# Altium footprint library SMD Resistor.PcbLib: 10 footprints
Each footprint in its own frame and in the unit in brackets; x right, y up, seen from the top. Pads: shape width x height; smd on the part's side, far side on the other; paste and mask are expansions set on the pad; w line width, h text height; cw(c..) or ccw(c..) is an arc to the next point about the centre after c.
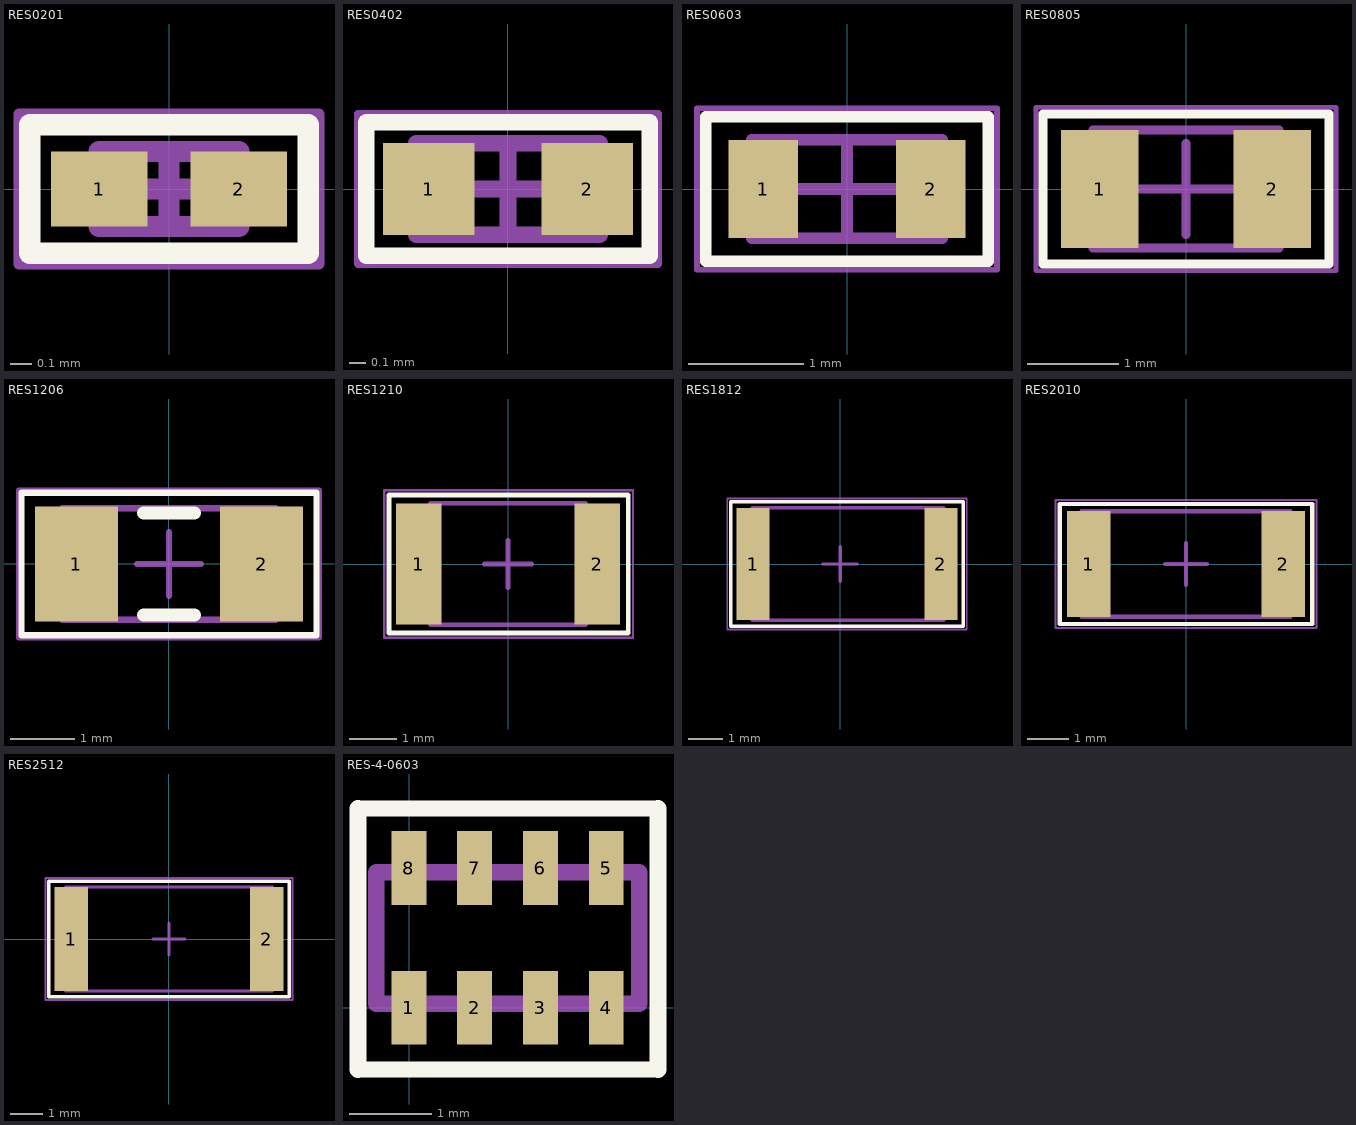
[diagram p0: the footprints below, top view; thin cyan lines are the x and y axes]

## RES0201 [mm] "Chip Resistor, 2-Leads, Body 0/60x0/30mm, IPC Medium Density DESIGNER:ABBAS BASEREH"
height 0.23
pads (2):
  rect 0.45x0.35 smd mask+0.04: 1(-0.325,0) 2(0.325,0)
Top Overlay:
  lines w0.1: -0.65,-0.3 0.325,-0.3 0.65,-0.3 0.65,0.3 0.325,0.3 -0.65,0.3 -0.65,-0.3
Mechanical 13:
  lines w0.1: -0.325,-0.175 0.325,-0.175 0.325,0.175 -0.325,0.175 -0.325,-0.175
Mechanical 15:
  lines w0.05: -0.7,-0.35 0.7,-0.35 0.7,0.35 -0.7,0.35 -0.7,-0.35
  lines w0.1: -0.175,0 0.175,0 ; 0,-0.175 0,0.175
3D body "User Library-0201(0603M) Res.STEP": height 0.32, standoff 0.01, extent -0.305,-0.152 0.305,0.153

## RES0402 [mm] "Chip Resistor, 2-Leads, Body 1/00x0/50mm, IPC Medium Density DESIGNER:ABBAS BASEREH"
height 0.32
pads (2):
  rect 0.55x0.55 smd mask+0.06: 1(-0.475,0) 2(0.475,0)
Top Overlay:
  lines w0.1: -0.85,-0.4 -0.85,0.4 0.425,0.4 0.85,0.4 0.85,-0.4 0.425,-0.4 -0.85,-0.4
Mechanical 13:
  lines w0.1: -0.55,-0.275 -0.55,0.275 0.55,0.275 0.55,-0.275 -0.55,-0.275
Mechanical 15:
  lines w0.05: -0.9,-0.45 -0.9,0.45 0.9,0.45 0.9,-0.45 -0.9,-0.45
  lines w0.1: -0.275,0 0.275,0 ; 0,-0.275 0,0.275
3D body "User Library-0402(1005M) Res.STEP": height 0.51, standoff 0, extent -0.508,-0.254 0.508,0.254

## RES0603 [mm] "Chip Resistor, 2-Leads, Body 1/60x0/80mm, IPC Medium Density DESIGNER:ABBAS BASEREH"
height 0.4
pads (2):
  rect 0.6x0.85 smd: 1(-0.725,0) 2(0.725,0)
Top Overlay:
  lines w0.1: -1.225,-0.625 -1.225,0.625 0.613,0.625 1.225,0.625 1.225,-0.625 0.613,-0.625 -1.225,-0.625
Mechanical 13:
  lines w0.1: -0.825,-0.425 -0.825,0.425 0.825,0.425 0.825,-0.425 -0.825,-0.425
Mechanical 15:
  lines w0.05: -1.3,-0.7 -1.3,0.7 1.3,0.7 1.3,-0.7 -1.3,-0.7
  lines w0.1: -0.425,0 0.425,0 ; 0,-0.425 0,0.425
3D body "User Library-0603(1608M) Res.STEP": height 0.8, standoff 0.01, extent -1,-0.394 1,0.394

## RES0805 [mm] "Chip Resistor, 2-Leads, Body 2/00x1/25mm, IPC Medium Density DESIGNER:ABBAS BASEREH"
height 0.5
pads (2):
  rect 0.85x1.3 smd: 1(-0.95,0) 2(0.95,0)
Top Overlay:
  lines w0.1: -1.575,-0.825 0.788,-0.825 1.575,-0.825 1.575,0.825 0.788,0.825 -1.575,0.825 -1.575,-0.825
Mechanical 13:
  lines w0.1: -1.025,-0.65 1.025,-0.65 1.025,0.65 -1.025,0.65 -1.025,-0.65
Mechanical 15:
  lines w0.05: -1.65,-0.9 1.65,-0.9 1.65,0.9 -1.65,0.9 -1.65,-0.9
  lines w0.1: -0.5,0 0.5,0 ; 0,-0.5 0,0.5
3D body "User Library-0805(2012M) Res.STEP": height 0.79, standoff 0, extent -1.254,-0.622 1.254,0.622

## RES1206 [mm] "Chip Resistor, 2-Leads, Body 3/20x1/60mm, IPC Medium Density DESIGNER:ABBAS BASEREH"
height 0.94
pads (2):
  rect 1.3x1.8 smd: 1(-1.449,-0.001) 2(1.451,-0.001)
Top Overlay:
  lines w0.1: -2.31,-1.118 2.313,-1.118 2.313,1.117 -2.31,1.117 -2.31,-1.118
  lines w0.2: -0.399,-0.801 0.401,-0.801 ; -0.399,0.799 0.401,0.799
Mechanical 13:
  lines w0.1: -1.674,-0.876 -1.674,0.874 1.676,0.874 1.676,-0.876 -1.674,-0.876
Mechanical 15:
  lines w0.1: -0.499,-0.001 0.501,-0.001 ; 0.001,-0.501 0.001,0.499 ; -2.349,-1.151 -2.349,1.149 2.351,1.149 2.351,-1.151 -2.349,-1.151
3D body "User Library-RES_3216-1206.STEP": height 0.85, standoff 0, extent -1.674,-0.866 1.676,0.864

## RES1210 [mm] "Chip Resistor, 2-Leads, Body 3/20x2/50mm, IPC Medium Density DESIGNER:ABBAS BASEREH"
height 0.55
pads (2):
  rect 0.95x2.55 smd: 1(-1.875,0) 2(1.875,0)
Top Overlay:
  lines w0.1: -2.5,-1.45 -2.5,1.45 1.075,1.45 2.525,1.45 2.525,-1.45 1.075,-1.45 -2.5,-1.45
Mechanical 13:
  lines w0.1: -1.625,-1.275 -1.625,1.275 1.625,1.275 1.625,-1.275 -1.625,-1.275
Mechanical 15:
  lines w0.05: -2.6,-1.55 -2.6,1.55 2.625,1.55 2.625,-1.55 -2.6,-1.55
  lines w0.1: -0.5,0 0.5,0 ; 0,-0.5 0,0.5
3D body "User Library-1210(3225M) Res.STEP": height 1.7, standoff 0, extent -2,-1.294 2,1.195

## RES1812 [mm] "Chip Resistor, 2-Leads, Body 4/50x3/20mm, IPC Medium Density DESIGNER:ABBAS BASEREH"
height 0.55
pads (2):
  rect 0.95x3.25 smd: 1(-2.525,0) 2(2.925,0)
Top Overlay:
  lines w0.1: -3.175,-1.8 -3.175,1.8 1.413,1.8 3.575,1.8 3.575,-1.8 1.413,-1.8 -3.175,-1.8
Mechanical 13:
  lines w0.1: -2.55,-1.625 -2.55,1.625 3,1.625 3,-1.625 -2.55,-1.625
Mechanical 15:
  lines w0.05: -3.275,-1.9 -3.275,1.9 3.675,1.9 3.675,-1.9 -3.275,-1.9
  lines w0.1: -0.5,0 0.5,0 ; 0,-0.5 0,0.5
3D body "User Library-1812(4532M) Res.STEP": height 2.54, standoff 0, extent -2.61,-1.6 3.01,1.6

## RES2010 [mm] "Chip Resistor, 2-Leads, Body 5/00x2/50mm, IPC Medium Density DESIGNER:ABBAS BASEREH"
height 0.55
pads (2):
  rect 1.05x2.55 smd: 1(-2.35,0) 2(2.35,0)
Top Overlay:
  lines w0.1: -3.05,-1.45 1.525,-1.45 3.05,-1.45 3.05,1.45 1.525,1.45 -3.05,1.45 -3.05,-1.45
Mechanical 13:
  lines w0.1: -2.525,-1.275 -2.525,1.275 2.525,1.275 2.525,-1.275 -2.525,-1.275
Mechanical 15:
  lines w0.05: -3.15,-1.55 -3.15,1.55 3.15,1.55 3.15,-1.55 -3.15,-1.55
  lines w0.1: -0.5,0 0.5,0 ; 0,-0.5 0,0.5
3D body "RES2010.step": height 0.55, standoff 0, extent -2.525,-1.275 2.525,1.275

## RES2512 [mm] "Chip Resistor, 2-Leads, Body 6/40x3/20mm, IPC Medium Density DESIGNER:ABBAS BASEREH"
height 0.7
pads (2):
  rect 1.05x3.25 smd: 1(-3.05,0) 2(3.05,0)
Top Overlay:
  lines w0.1: -3.75,-1.8 1.875,-1.8 3.75,-1.8 3.75,1.8 1.875,1.8 -3.75,1.8 -3.75,-1.8
Mechanical 13:
  lines w0.1: -3.225,-1.625 3.225,-1.625 3.225,1.625 -3.225,1.625 -3.225,-1.625
Mechanical 15:
  lines w0.05: -3.85,-1.9 3.85,-1.9 3.85,1.9 -3.85,1.9 -3.85,-1.9
  lines w0.1: -0.5,0 0.5,0 ; 0,-0.5 0,0.5
3D body "RES2512.step": height 0.7, standoff 0, extent -3.225,-1.625 3.225,1.625

## RES-4-0603 [mm]
pads (8):
  rect 0.425x0.9 smd: 1(-0.005,0.001) 2(0.795,0.001) 3(1.595,0.001) 4(2.395,0.001) 5(2.395,1.701) 6(1.595,1.701) 7(0.795,1.701) 8(-0.005,1.701)
Top Overlay:
  lines w0.2: -0.625,-0.75 3.025,-0.75 ; -0.625,2.425 3.025,2.425
  lines w0.203: -0.625,-0.75 -0.625,2.425 ; 3.025,-0.75 3.025,2.425
Mechanical 15:
  lines w0.2: -0.405,0.051 2.795,0.051 2.795,1.651 -0.405,1.651 -0.405,0.051
3D body "User Library-RESCAXS80P160X320X60-8N.STEP": height 0.5, standoff 0, extent -0.452,0.073 2.848,1.673